# Altium schematic symbol library V23076A1001C133.SchLib: 1 symbol
Pins are listed as number, name and electrical type; pins without a type are passive.

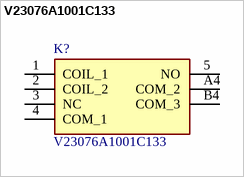
[diagram p0: symbol V23076A1001C133]

## V23076A1001C133
designator K?
Automotive Relays; Manufacturer_Name: TE Connectivity; Geometry.Height: 21.5mm; Manufacturer_Part_Number: V23076A1001C133; Mouser Part Number: 571-V23076A1001C133; Mouser Price/Stock: https://www.mouser.co.uk/ProductDetail/TE-Connectivity-AMP/V23076A1001C133?qs=CUfic%2FGsH5A8P1ALtscaeA%3D%3D; Arrow Part Number: V23076A1001C133; Arrow Price/Stock: https://www.arrow.com/en/products/v23076a1001c133/te-connectivity; Datasheet Link: https://componentsearchengine.com/Datasheets/2/V23076A1001C133.pdf
footprint V23076A1001C133
pins: 1 COIL_1, 2 COIL_2, 3 NC, 4 COM_1, 5 NO, A4 COM_2, B4 COM_3